# Altium footprint library Sensor Module.PcbLib: 2 footprints
Each footprint in its own frame and in the unit in brackets; x right, y up, seen from the top. Pads: shape width x height; smd on the part's side, far side on the other; paste and mask are expansions set on the pad; w line width, h text height; cw(c..) or ccw(c..) is an arc to the next point about the centre after c.
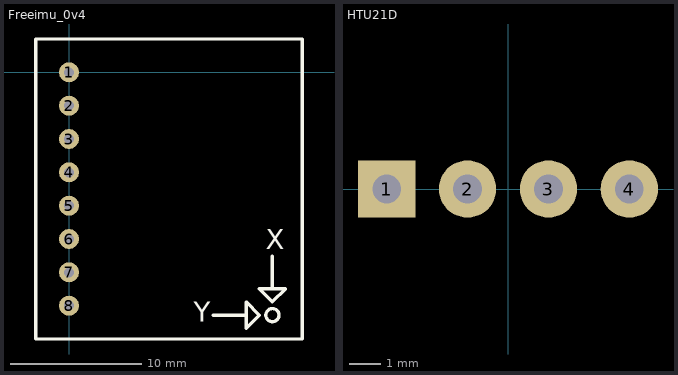
[diagram p0: the footprints below, top view; thin cyan lines are the x and y axes]

## Freeimu_0v4 [mil]
pads (8):
  round 60 hole 30: 1(0,0) 2(0,-100) 3(0,-200) 4(0,-300) 5(0,-400) 6(0,-500) 7(0,-600) 8(0,-700)
Top Overlay:
  circle w10: c610.24,-728.35 r19.69
  lines w10: 433.07,-728.35 531.5,-728.35 ; 610.24,-551.18 610.24,-649.61 570.87,-649.61 ; 531.5,-728.35 531.5,-728.35 ; 570.87,-649.61 649.61,-649.61 610.24,-688.98 570.87,-649.61 ; -100,-800 700,-800 700,100 -100,100 -100,-800 ; 531.5,-767.72 531.5,-688.98 570.87,-728.35 531.5,-767.72
  text "X" at 590.55,-531.5 h60
  text "Y" at 374.02,-748.03 h60

## HTU21D [mm]
pads (4):
  rect 1.8x1.8 hole 0.9: 1(-3.81,0)
  round 1.8 hole 0.9: 2(-1.27,0) 3(1.27,0) 4(3.81,0)
3D body "HTU21D.step": height 17.7, standoff -5.86, extent -7.5,-4.265 7.5,1.25